# EAGLE library part SST39VF010-70-4I-NHE (library Silicon_Storage_Tech_By_element14_Batch_1)
1MB Flash
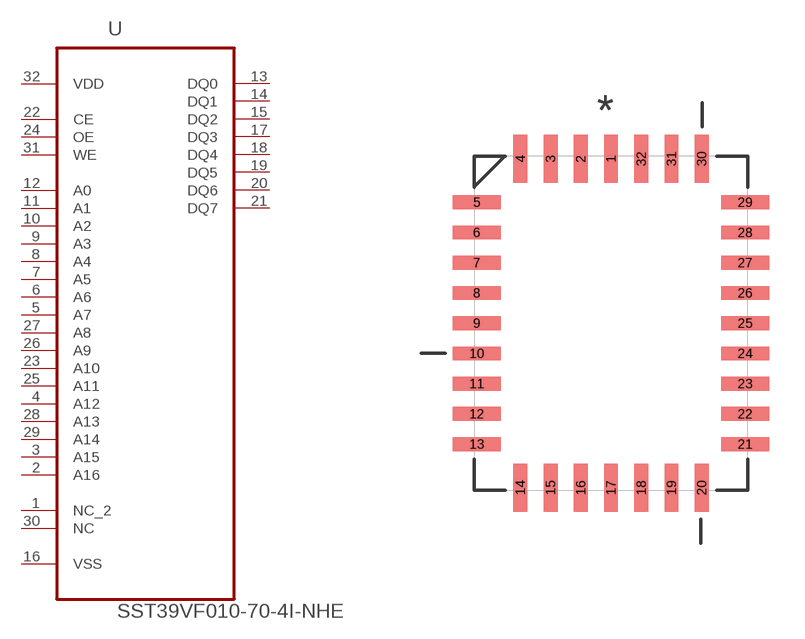
[diagram p11: symbol with the pads of PLCC127P1244X1498X357-32N; footprint PLCC127P1244X1498X357-32N]

Designator prefix U

## SST39VF010-70-4I-NHE (MPN: SST39VF010-70-4I-NHE; OC_FARNELL: 1829983; OC_NEWARK: 84R7594; PACKAGE: PLCC-32; SUPPLIER: Silicon Storage Technology)  [PLCC127P1244X1498X357-32N]
1  NC_2  nc
2  A16  in
3  A15  in
4  A12  in
5  A7  in
6  A6  in
7  A5  in
8  A4  in
9  A3  in
10  A2  in
11  A1  in
12  A0  in
13  DQ0  out
14  DQ1  out
15  DQ2  out
16  VSS  pas
17  DQ3  out
18  DQ4  out
19  DQ5  out
20  DQ6  out
21  DQ7  out
22  CE  in
23  A10  in
24  OE  in
25  A11  in
26  A9  in
27  A8  in
28  A13  in
29  A14  in
30  NC  nc
31  WE  in
32  VDD  pwr

## Footprint PLCC127P1244X1498X357-32N (pad centres in mm)
smd 0.584 x 2.007: 1 0,6.909; 2 -1.27,6.909; 3 -2.54,6.909; 4 -3.81,6.909; 14 -3.81,-6.909; 15 -2.54,-6.909; 16 -1.27,-6.909; 17 0,-6.909; 18 1.27,-6.909; 19 2.54,-6.909; 20 3.81,-6.909; 30 3.81,6.909; 31 2.54,6.909; 32 1.27,6.909
smd 2.007 x 0.584: 5 -5.639,5.08; 6 -5.639,3.81; 7 -5.639,2.54; 8 -5.639,1.27; 9 -5.639,0; 10 -5.639,-1.27; 11 -5.639,-2.54; 12 -5.639,-3.81; 13 -5.639,-5.08; 21 5.639,-5.08; 22 5.639,-3.81; 23 5.639,-2.54; 24 5.639,-1.27; 25 5.639,0; 26 5.639,1.27; 27 5.639,2.54; 28 5.639,3.81; 29 5.639,5.08